# Altium schematic symbol library EEW_Client.SchLib: 10 symbols
Pins are listed as number, name and electrical type; pins without a type are passive.

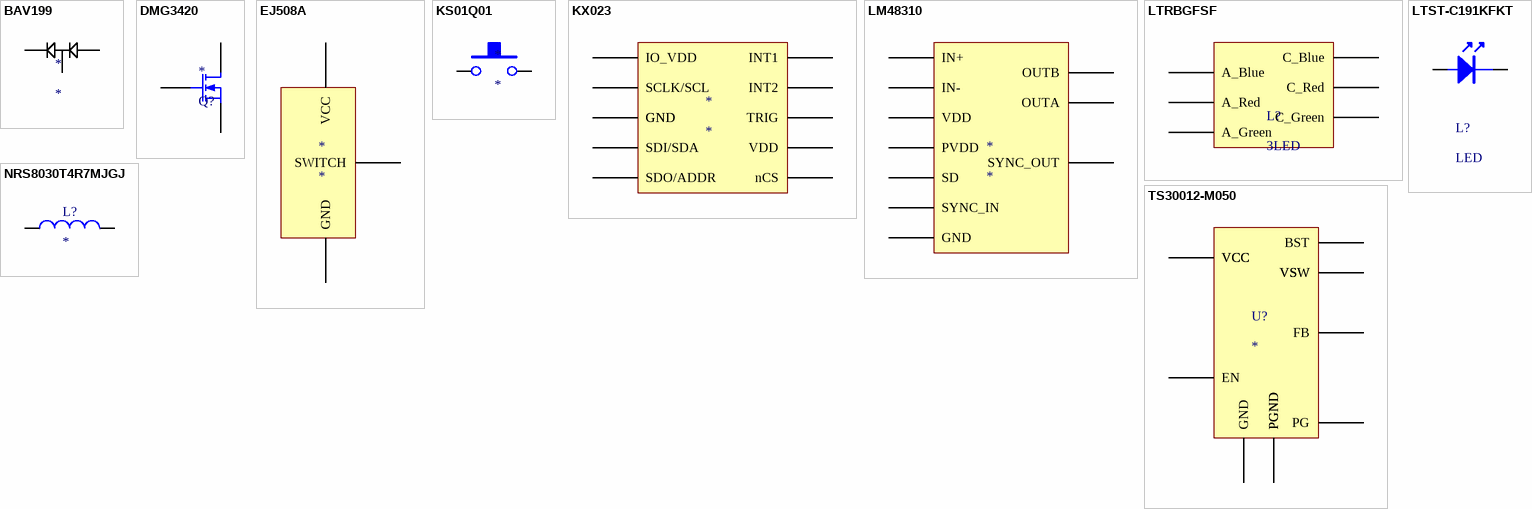
[diagram p0: symbols BAV199 to TS30012-M050]

## BAV199
designator *
footprint SOT-23-3
pins: 1, 2, 3

## DMG3420
designator *, comment Q?
footprint SOT23 (For DMG3420U)
pins: D, G, S

## EJ508A
designator *
footprint EJ508A
pins: GND, SWITCH, VCC

## KS01Q01
designator *
footprint KS01Q01 (Normally Open Switch)
pins: 1, 2

## KX023
designator *
footprint 16-LGA (3x3) (KX023 Accelerometer)
pins: 1 IO_VDD, 4 SCLK/SCL, 5 GND, 6 SDI/SDA, 7 SDO/ADDR, 8 nCS, 9 INT2, 11 INT1, 12 GND, 13 TRIG, 14 VDD

## LM48310
designator *
footprint 10-WFDFN (LM48310 Amplifier)
pins: 1 IN+, 2 IN-, 3 VDD, 4 SD, 5 SYNC_IN, 6 SYNC_OUT, 7 OUTB, 8 GND, 9 PVDD, 10 OUTA, PAD GND

## LTRBGFSF
designator L?, comment 3LED
LED
footprint LTRB GFSF (3 color LED)
pins: A1 A_Blue, A2 A_Red, A3 A_Green, C1 C_Blue, C2 C_Red, C3 C_Green

## LTST-C191KFKT
designator L?, comment LED
footprint LTST-C191KFKT (Orange LED)
pins: A, K

## NRS8030T4R7MJGJ
designator L?
footprint NRS8030T4R7MJGJ (4.7 uH 3.6A inductor)
pins: 1, 2

## TS30012-M050
designator U?
Switching Regulator 5V
footprint 16-VFQFN Exposed Pad
pins: 1 VSW, 2 VCC, 3 VCC, 4 GND, 5 FB, 8 PG, 9 EN, 10 BST, 11 VCC, 12 VSW, 13 VSW, 14 PGND, 15 PGND, 16 VSW, PAD PGND